# EAGLE library part 1PEEK-10_C (library con-odu_med)
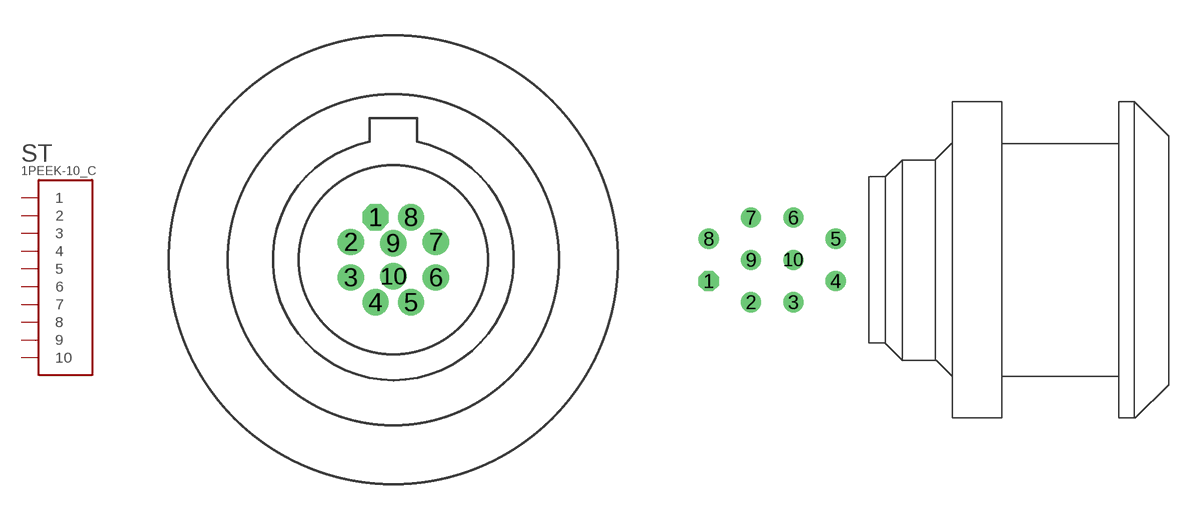
[diagram p13: symbol with the pads of 1PEEK10; footprints 1PEEK10, 1PEEK10_S]

Designator prefix ST

## 1PEEK-10_C  [1PEEK10]
1  1  pas
2  2  pas
3  3  pas
4  4  pas
5  5  pas
6  6  pas
7  7  pas
8  8  pas
9  9  pas
10  10  pas

## 1PEEK-10_C1PEEK10_S  [1PEEK10_S]
Pads as for 1PEEK10

## Footprint 1PEEK10 (pad centres in mm)
drill 0.6 octagon: 1 -0.75,1.8
drill 0.6: 2 -1.8,0.75; 3 -1.8,-0.75; 4 -0.75,-1.8; 5 0.75,-1.8; 6 1.8,-0.75; 7 1.8,0.75; 8 0.75,1.8; 9 0,0.7; 10 0,-0.7

## Footprint 1PEEK10_S (pad centres in mm)
drill 0.7 octagon: 1 -7.62,-1.27
drill 0.7: 2 -5.08,-2.54; 3 -2.54,-2.54; 4 0,-1.27; 5 0,1.27; 6 -2.54,2.54; 7 -5.08,2.54; 8 -7.62,1.27; 9 -5.08,0; 10 -2.54,0